# EAGLE library part BM09B-SRSS (library con-JST SH)
JST SH series header 1.00mm pitch disconnectable crimp style connectors, vertical (side entry type), 9 pins
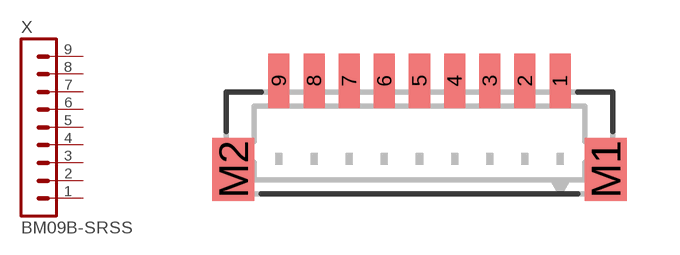
[diagram p3: symbol with the pads of BM09B-SRSS-TB; footprint BM09B-SRSS-TB]

Designator prefix X

## BM09B-SRSS-TB  [BM09B-SRSS-TB]
1  1  pas
2  2  pas
3  3  pas
4  4  pas
5  5  pas
6  6  pas
7  7  pas
8  8  pas
9  9  pas

## Footprint BM09B-SRSS-TB (pad centres in mm)
JST SH series header 1.00mm pitch disconnectable crimp style connectors, SMT vertical (top entry type), 9 pins
smd 0.6 x 1.55: 1 4,0; 2 3,0; 3 2,0; 4 1,0; 5 0,0; 6 -1,0; 7 -2,0; 8 -3,0; 9 -4,0
smd 1.2 x 1.8: M1 5.3,-2.525; M2 -5.3,-2.525